# EAGLE library part FDS6670AS (library m-pad-2.1)
Fairchild's FDS6670AS 30V N-Channel PowerTrench® SyncFET General Description: The FDS6670AS is designed to replace a single SO-8 MOSFET and Schottky diode in synchronous DC:DC power supplies. This 30V MOSFET is designed to maximize power conversion efficiency, providing a low RDS(ON) and low gate charge. The FDS6670AS includes an integrated Schottky diode using Fairchild's monolithic SyncFET technology. Applications: DC/DC converter Low side notebook Features: 13.5 A, 30 V. RDS(ON) max= 9.0 mOhm @ VGS = 10 V RDS(ON) max= 11.5 mOhm @ VGS = 4.5 V Includes SyncFET Schottky body diode Low gate charge (27nC typical) High performance trench technology for extremely low RDS(ON) and fast switching High power and current handling capability Please send any comments to: messi@users.sourceforge.net
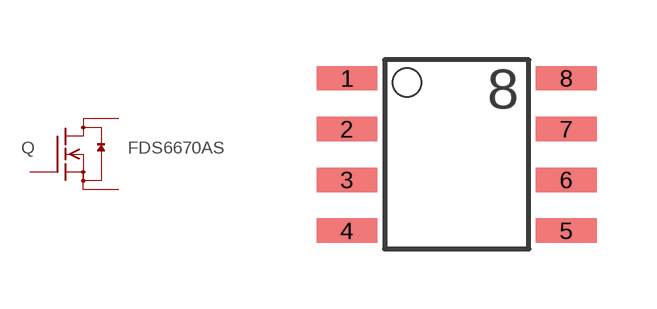
[diagram p69: symbol with the pads of SO-8; footprint SO-8]

Designator prefix Q

## FDS6670AS  [SO-8]
1  S  pas
2  S  pas
3  S  pas
4  G  pas
5  D  pas
6  D  pas
7  D  pas
8  D  pas

## Footprint SO-8 (pad centres in mm)
small outline
smd 1.524 x 0.61: 1 -2.743,1.27; 2 -2.743,0; 3 -2.743,-1.27; 4 -2.743,-2.54; 5 2.743,-2.54; 6 2.743,-1.27; 7 2.743,0; 8 2.743,1.27